# Altium footprint library EL-TCaseE2917(7353-43).PcbLib: 1 footprints
Each footprint in its own frame and in the unit in brackets; x right, y up, seen from the top. Pads: shape width x height; smd on the part's side, far side on the other; paste and mask are expansions set on the pad; w line width, h text height; cw(c..) or ccw(c..) is an arc to the next point about the centre after c.
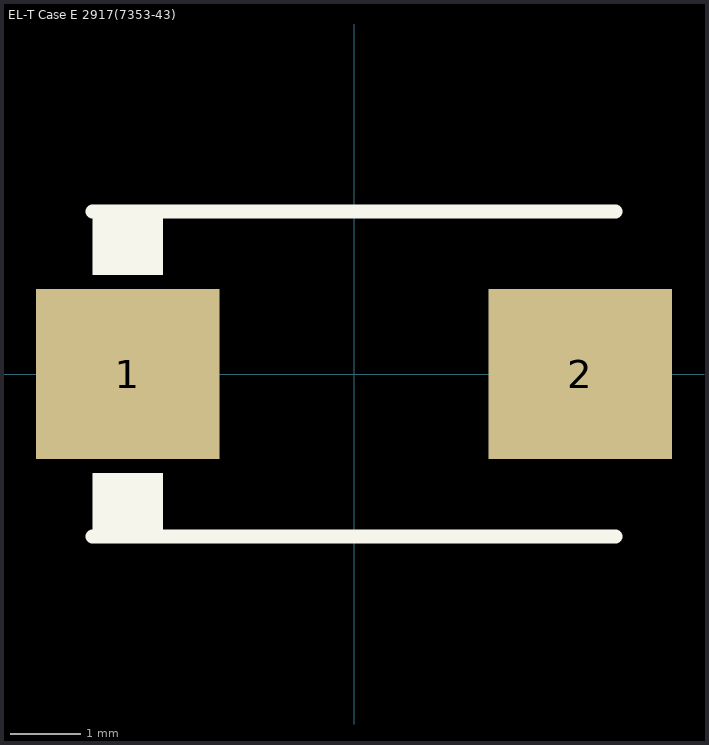
[diagram p0: the footprint, top view; thin cyan lines are the x and y axes]

## EL-T Case E 2917(7353-43) [mm] "Capacitor, SM Tantalum; Body 7.3 x 4.3 mm (LxW typ)"
height 4.3
pads (2):
  rect 2.6x2.4 smd: 1(-3.2,0) 2(3.2,0)
Top Overlay:
  rectangle: -3.7,1.4 -2.7,2.2
  rectangle: -3.7,-2.2 -2.7,-1.4
  lines w0.2: -3.7,-2.3 3.7,-2.3 ; -3.7,2.3 3.7,2.3
3D body "EL-T SMD Case E 2917(7343-4.3).STEP": height 4.11, standoff 0, extent -3.647,-2.15 3.647,2.15